# Altium schematic symbol library CONN_3.5MM_JACK.SchLib: 5 symbols
Pins are listed as number, name and electrical type; pins without a type are passive.

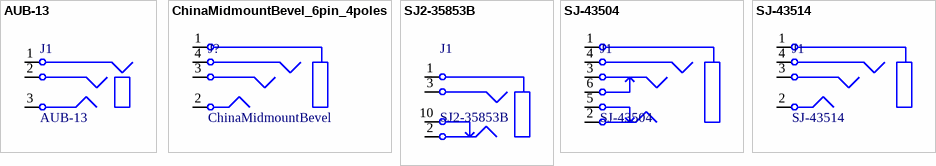
[diagram p0: symbols AUB-13 to SJ-43514]

## AUB-13
designator J1
Audio jack 3.5mm stereo; Supplier: http://www.compel.ru/infosheet/BM/AUB-13/
footprint AUB-13 (Audio jack 3.5mm stereo)
pins: 1, 2, 3

## ChinaMidmountBevel_6pin_4poles
designator J?, comment ChinaMidmountBevel
Audio jack 3.5mm stereo + microphone
footprint CHINA_MIDMOUNT_BEVEL_JACK3.5mm
pins: 1, 2, 3, 4

## SJ2-35853B
designator J1
Audio jack 3.5mm stereo; Supplier: Digikey; Datasheet: http://www.cui.com/product/resource/sj2-3585x-smt.pdf
footprint SJ2-35853B-SMT (http://www.cui.com/product/resource/sj2-3585x-smt.pdf)
pins: 1, 2, 3, 10

## SJ-43504
designator J1
Audio jack 3.5mm stereo; Supplier: Digikey; Datasheet: http://www.cui.com/product/resource/sj-43504-smt.pdf
footprint SJ-43504-SMT (http://www.cui.com/product/resource/sj-43504-smt.pdf)
pins: 1, 2, 3, 4, 5, 6

## SJ-43514
designator J1
Audio jack 3.5mm stereo; Supplier: Digikey; Datasheet: http://www.cui.com/product/resource/sj-4351x-smt-series.pdf
footprint SJ-53514-SMT (http://www.cui.com/product/resource/sj-4351x-smt-series.pdf)
pins: 1, 2, 3, 4